# EAGLE library part LT1308A (library xess)
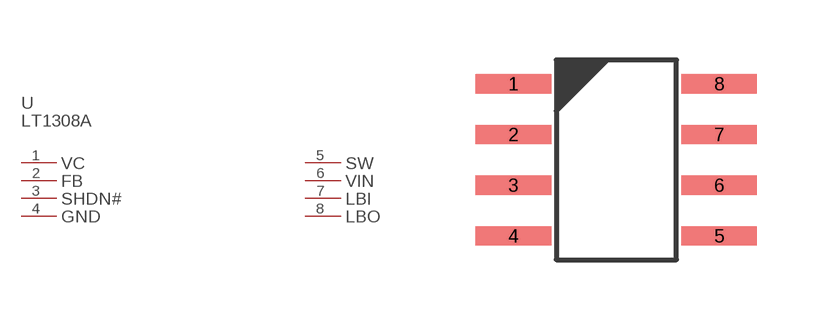
[diagram p78: symbol with the pads of LT1308A; footprint LT1308A]

Designator prefix U; gates PART_VALUE=PART_VALUE-LT1308A VC=PL-LT1308A FB=PL-LT1308A SHDN#=PL-LT1308A GND=PL-LT1308A SW=PL-LT1308A VIN=PL-LT1308A LBI=PL-LT1308A LBO=PL-LT1308A

## LT1308A  [LT1308A]
1  VC:P$1
2  FB:P$1
3  SHDN#:P$1
4  GND:P$1
5  SW:P$1
6  VIN:P$1
7  LBI:P$1
8  LBO:P$1

## Footprint LT1308A (pad centres in mm)
smd 1.89 x 0.483: 1 -0.11,0; 2 -0.11,-1.27; 3 -0.11,-2.54; 4 -0.11,-3.81; 5 5.037,-3.81; 6 5.037,-2.54; 7 5.037,-1.27; 8 5.037,0